# EAGLE library part PCAL6416A (library kiks-ic)
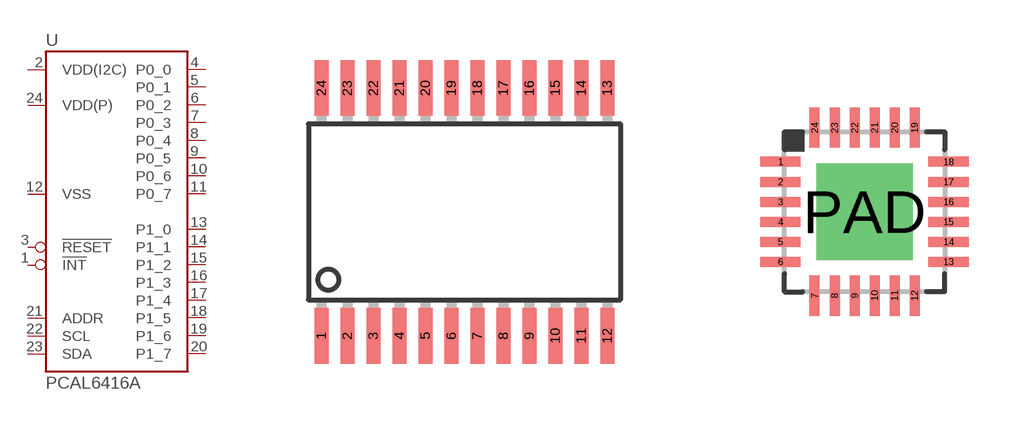
[diagram p16: symbol with the pads of TSSOP24; footprints TSSOP24, QFN24-0.5]

Designator prefix U

## PCAL6416APW  [TSSOP24]
1  !INT  out
2  VDD(I2C)  in
3  !RESET  in
4  P0_0
5  P0_1
6  P0_2
7  P0_3
8  P0_4
9  P0_5
10  P0_6
11  P0_7
12  VSS  in
13  P1_0
14  P1_1
15  P1_2
16  P1_3
17  P1_4
18  P1_5
19  P1_6
20  P1_7
21  ADDR  in
22  SCL  in
23  SDA
24  VDD(P)  in

## PCAL6416AHF  [QFN24-0.5]
1  P0_0
2  P0_1
3  P0_2
4  P0_3
5  P0_4
6  P0_5
7  P0_6
8  P0_7
9  VSS  in
10  P1_0
11  P1_1
12  P1_2
13  P1_3
14  P1_4
15  P1_5
16  P1_6
17  P1_7
18  ADDR  in
19  SCL  in
20  SDA
21  VDD(P)  in
22  !INT  out
23  VDD(I2C)  in
24  !RESET  in
PAD  VSS  in

## Footprint TSSOP24 (pad centres in mm)
smd 0.35 x 1.4: 1 -3.575,-3.1; 2 -2.925,-3.1; 3 -2.275,-3.1; 4 -1.625,-3.1; 5 -0.975,-3.1; 6 -0.325,-3.1; 7 0.325,-3.1; 8 0.975,-3.1; 9 1.625,-3.1; 10 2.275,-3.1; 11 2.925,-3.1; 12 3.575,-3.1; 13 3.575,3.1; 14 2.925,3.1; 15 2.275,3.1; 16 1.625,3.1; 17 0.975,3.1; 18 0.325,3.1; 19 -0.325,3.1; 20 -0.975,3.1; 21 -1.625,3.1; 22 -2.275,3.1; 23 -2.925,3.1; 24 -3.575,3.1

## Footprint QFN24-0.5 (pad centres in mm)
smd 1 x 0.25: 1 -2.1,1.25; 2 -2.1,0.75; 3 -2.1,0.25; 4 -2.1,-0.25; 5 -2.1,-0.75; 6 -2.1,-1.25; 13 2.1,-1.25; 14 2.1,-0.75; 15 2.1,-0.25; 16 2.1,0.25; 17 2.1,0.75; 18 2.1,1.25
smd 0.25 x 1: 7 -1.25,-2.1; 8 -0.75,-2.1; 9 -0.25,-2.1; 10 0.25,-2.1; 11 0.75,-2.1; 12 1.25,-2.1; 19 1.25,2.1; 20 0.75,2.1; 21 0.25,2.1; 22 -0.25,2.1; 23 -0.75,2.1; 24 -1.25,2.1
drill 1.6 pad 2.1 square: PAD 0,0